# EAGLE library part LM339_MULTIPLE (library Cape)
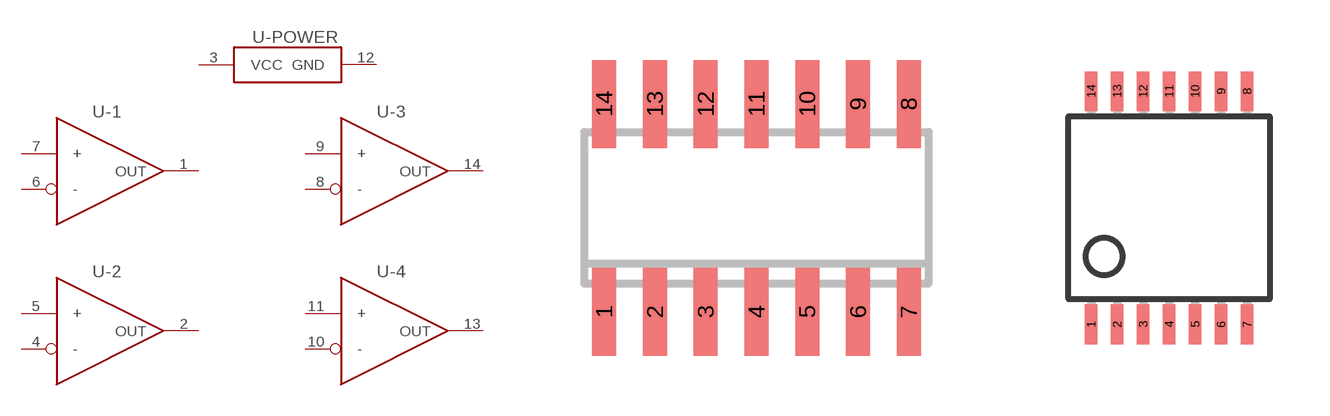
[diagram p5: symbol with the pads of SO14; footprints SO14, TSSOP14]

Designator prefix U; gates -POWER=VCC-GND -1=COMPARATOR -2=COMPARATOR -3=COMPARATOR -4=COMPARATOR

## LM339_MULTIPLEAD  [SO14]
1  -1:OUT  out
2  -2:OUT  out
3  -POWER:VCC  pwr
4  -2:-  in
5  -2:+  in
6  -1:-  in
7  -1:+  in
8  -3:-  in
9  -3:+  in
10  -4:-  in
11  -4:+  in
12  -POWER:GND  pwr
13  -4:OUT  out
14  -3:OUT  out

## LM339_MULTIPLEAPW  [TSSOP14]
Pads as for SO14

## Footprint SO14 (pad centres in mm)
SMALL OUTLINE INTEGRATED CIRCUIT body 3.9 mm/JEDEC MS-012AC
smd 0.6 x 2.2: 1 -3.81,-2.6; 2 -2.54,-2.6; 3 -1.27,-2.6; 4 0,-2.6; 5 1.27,-2.6; 6 2.54,-2.6; 7 3.81,-2.6; 8 3.81,2.6; 9 2.54,2.6; 10 1.27,2.6; 11 0,2.6; 12 -1.27,2.6; 13 -2.54,2.6; 14 -3.81,2.6

## Footprint TSSOP14 (pad centres in mm)
Thin Shrink Small Outline Plastic 14 MAX3223-MAX3243.pdf
smd 0.305 x 0.991: 1 -1.95,-2.918; 2 -1.3,-2.918; 3 -0.65,-2.918; 4 0,-2.918; 5 0.65,-2.918; 6 1.3,-2.918; 7 1.95,-2.918; 8 1.95,2.918; 9 1.3,2.918; 10 0.65,2.918; 11 0,2.918; 12 -0.65,2.918; 13 -1.3,2.918; 14 -1.95,2.918